# Altium footprint library microGate.PcbLib: 7 footprints
Each footprint in its own frame and in the unit in brackets; x right, y up, seen from the top. Pads: shape width x height; smd on the part's side, far side on the other; paste and mask are expansions set on the pad; w line width, h text height; cw(c..) or ccw(c..) is an arc to the next point about the centre after c.
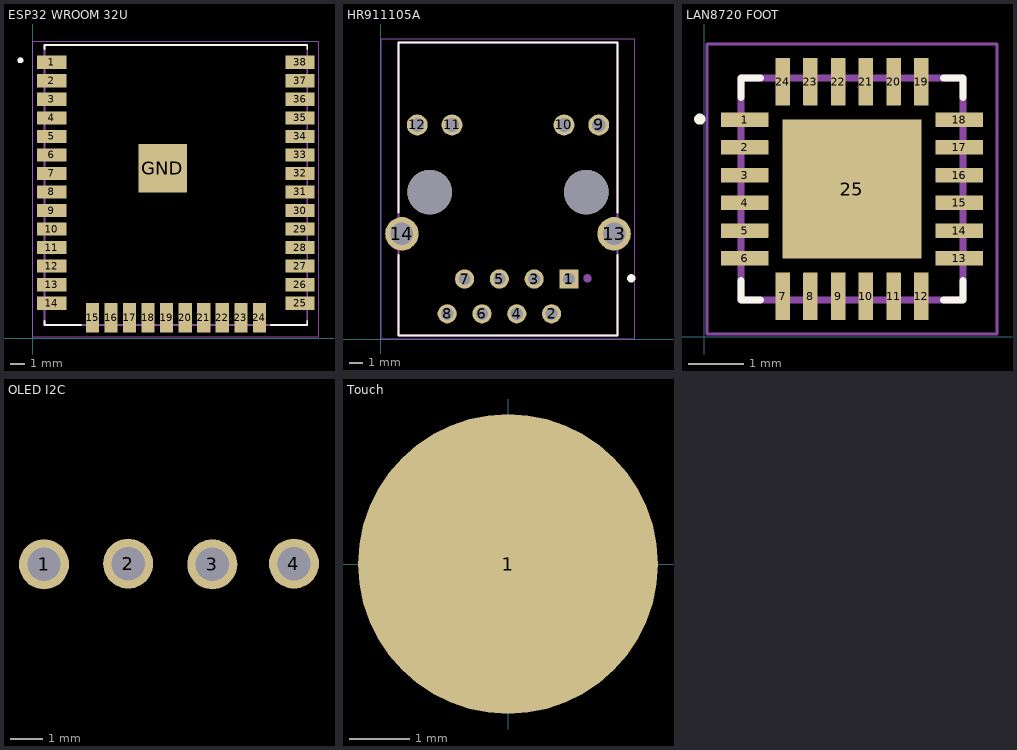
[diagram p0: the footprints below, top view; thin cyan lines are the x and y axes]

## ESP32 WROOM 32U [mm]
pads (39):
  rect 2x0.9 smd: 1(1.316,18.908) 2(1.316,17.638) 3(1.316,16.368) 4(1.316,15.098) 5(1.316,13.828) 6(1.316,12.558) 7(1.316,11.288) 8(1.316,10.018) 9(1.316,8.748) 10(1.316,7.478) 11(1.316,6.208) 12(1.316,4.938) 13(1.316,3.668) 14(1.316,2.398) 25(18.316,2.398) 26(18.316,3.668) 27(18.316,4.938) 28(18.316,6.208) 29(18.316,7.478) 30(18.316,8.748) 31(18.316,10.018) 32(18.316,11.288) 33(18.316,12.558) 34(18.316,13.828) 35(18.316,15.098) 36(18.316,16.368) 37(18.316,17.638) 38(18.316,18.908)
  rect 0.9x2 smd: 15(4.101,1.398) 16(5.371,1.398) 17(6.641,1.398) 18(7.911,1.398) 19(9.181,1.398) 20(10.451,1.398) 21(11.721,1.398) 22(12.991,1.398) 23(14.261,1.398) 24(15.531,1.398)
  rect 3.33x3.33 smd: GND(8.9,11.65)
Top Overlay:
  circle w0.2: c-0.834,19.038 r0.1
  lines w0.127: 0.816,1.198 0.816,0.898 3.326,0.898 ; 0.816,19.798 0.816,20.098 18.816,20.098 18.816,19.798 ; 16.306,0.898 18.816,0.898 18.816,1.198
Mechanical 13:
  circle w0.2: c-0.834,19.038 r0.1
  lines w0.127: 0.816,0.898 18.816,0.898 18.816,20.098 0.816,20.098 0.816,0.898
Mechanical 15:
  lines w0.05: 0.016,0.098 19.616,0.098 19.616,20.348 0.016,20.348 0.016,0.098
3D body "ESp32-WROOM-32U v3.step": height 3.4, standoff -0.04, extent 0.751,0.838 18.821,20.078

## HR911105A [mm]
pads (16):
  rect 1.398x1.398 hole 0.89: 1(13.725,4.4)
  round 1.398 hole 0.89: 2(12.455,1.86) 3(11.185,4.4) 4(9.915,1.86) 5(8.645,4.4) 6(7.375,1.86) 7(6.105,4.4) 8(4.835,1.86)
  round 1.53 hole 1.02: 9(15.9,15.65) 10(13.36,15.65) 11(5.19,15.65) 12(2.65,15.65)
  round 2.445 hole 1.63: 13(17.02,7.7) 14(1.53,7.7)
  round 3.25 hole 3.25 unplated: ""(3.56,10.75) ""(14.99,10.75)
Top Overlay:
  circle w0.3: c18.275,4.45 r0.15
  lines w0.127: 1.275,6.15 1.275,0.27 17.275,0.27 17.275,6.15 ; 1.275,9.25 1.275,21.67 17.275,21.67 17.275,9.25
Mechanical 13:
  circle w0.3: c15.075,4.45 r0.15
  lines w0.127: 1.275,0.27 1.275,21.67 17.275,21.67 17.275,0.27 1.275,0.27
Mechanical 15:
  lines w0.05: 0.025,0.02 0.025,21.92 18.525,21.92 18.525,0.02 0.025,0.02
3D body "User Library-HR911105A.STEP": height 13.7, standoff -2.8, extent 1.335,0.2 17.215,21.6

## LAN8720 FOOT [mm]
pads (25):
  rrect7% 0.86x0.26 smd mask+0.032: 1(0.732,3.917) 2(0.732,3.417) 3(0.732,2.917) 4(0.732,2.417) 5(0.732,1.917) 6(0.732,1.417) 13(4.602,1.417) 14(4.602,1.917) 15(4.602,2.417) 16(4.602,2.917) 17(4.602,3.417) 18(4.602,3.917)
  rrect7% 0.26x0.86 smd mask+0.032: 7(1.417,0.732) 8(1.917,0.732) 9(2.417,0.732) 10(2.917,0.732) 11(3.417,0.732) 12(3.917,0.732) 19(3.917,4.602) 20(3.417,4.602) 21(2.917,4.602) 22(2.417,4.602) 23(1.917,4.602) 24(1.417,4.602)
  rect 2.5x2.5 smd mask+0.032: 25(2.667,2.667)
Top Overlay:
  circle w0.1: c-0.078,3.927 r0.05
  lines w0.127: 0.667,1.017 0.667,0.667 1.017,0.667 ; 0.667,4.317 0.667,4.667 1.017,4.667 ; 4.317,0.667 4.667,0.667 4.667,1.017 ; 4.317,4.667 4.667,4.667 4.667,4.317
Top Paste:
  region: 3.757,1.577 2.837,1.577 2.837,2.497 3.757,2.497
  region: 2.497,1.575 1.575,1.575 1.575,2.497 2.497,2.497
  region: 2.497,2.837 1.576,2.837 1.576,3.757 2.497,3.757
  region: 3.757,2.837 2.837,2.837 2.837,3.757 3.757,3.757
Mechanical 13:
  circle w0.1: c0.472,3.927 r0.05
  lines w0.127: 0.667,0.667 0.667,4.667 4.667,4.667 4.667,0.667 0.667,0.667
Mechanical 15:
  lines w0.05: 0.052,0.052 0.052,5.282 5.282,5.282 5.282,0.052 0.052,0.052
3D body "User Library-QFN24 Punch.STEP": height 0.65, standoff -0.02, extent 0.675,0.675 4.675,4.675

## Logo [mm]

## OLED I2C [mm]
pads (4):
  round 1.53 hole 1.02: 1(9.627,25.476) 2(12.2,25.5) 3(14.775,25.475) 4(17.275,25.5)
3D body "User Library-128x64I2COLEDDisplayAdafruit.STEP": height 7.47, standoff -3.37, extent 0.1,-0.05 26.8,27.81

## PCBComponent_1 - duplicate1 [mm]

## Touch [mm]
pads (1):
  round 5 smd: 1(0,0)